# Altium footprint library ARDUINO_NANO.PcbLib: 2 footprints
Each footprint in its own frame and in the unit in brackets; x right, y up, seen from the top. Pads: shape width x height; smd on the part's side, far side on the other; paste and mask are expansions set on the pad; w line width, h text height; cw(c..) or ccw(c..) is an arc to the next point about the centre after c.
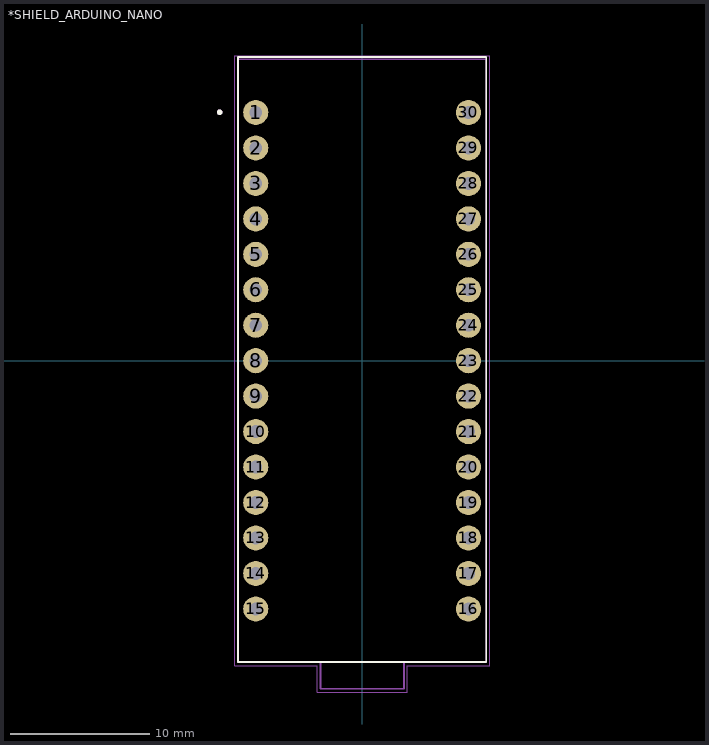
[diagram p0: the footprints below, top view; thin cyan lines are the x and y axes]

## *SHIELD_ARDUINO_NANO [mm]
pads (30):
  round 1.8 hole 0.918: 1(-7.62,17.78) 2(-7.62,15.24) 3(-7.62,12.7) 4(-7.62,10.16) 5(-7.62,7.62) 6(-7.62,5.08) 7(-7.62,2.54) 8(-7.62,0) 9(-7.62,-2.54) 10(-7.62,-5.08) 11(-7.62,-7.62) 12(-7.62,-10.16) 13(-7.62,-12.7) 14(-7.62,-15.24) 15(-7.62,-17.78) 16(7.62,-17.78) 17(7.62,-15.24) 18(7.62,-12.7) 19(7.62,-10.16) 20(7.62,-7.62) 21(7.62,-5.08) 22(7.62,-2.54) 23(7.62,0) 24(7.62,2.54) 25(7.62,5.08) 26(7.62,7.62) 27(7.62,10.16) 28(7.62,12.7) 29(7.62,15.24) 30(7.62,17.78)
Top Overlay:
  circle w0.2: c-10.2,17.8 r0.1
  lines w0.127: -8.89,-21.59 -8.89,21.75 8.89,21.75 8.89,-21.59 -8.89,-21.59
Mechanical 13:
  circle w0.2: c-10.2,17.8 r0.1
  circle w0.2: c-10.2,17.8 r0.1
  lines w0.127: -8.89,-21.59 -8.89,21.59 ; -8.89,-21.59 -2.97,-21.59 ; -8.89,-21.59 -8.89,21.59 ; -8.89,-21.59 -2.97,-21.59 ; -8.89,21.59 8.89,21.59 ; -8.89,21.59 8.89,21.59 ; -2.97,-23.495 3,-23.495 ; -2.97,-23.495 -2.97,-21.59 ; -2.97,-23.495 3,-23.495 ; -2.97,-23.495 -2.97,-21.59 ; -2.97,-21.59 3,-21.59 ; -2.97,-21.59 3,-21.59 ; 3,-23.495 3,-21.59 ; 3,-23.495 3,-21.59 ; 3,-21.59 8.89,-21.59 ; 3,-21.59 8.89,-21.59 ; 8.89,-21.59 8.89,21.59 ; 8.89,-21.59 8.89,21.59
Mechanical 16:
  lines w0.05: -9.14,-21.84 -3.22,-21.84 -3.22,-23.745 3.25,-23.745 3.25,-21.84 9.14,-21.84 9.14,21.84 -9.14,21.84 -9.14,-21.84
3D body: height 0.25, standoff 0, extent 0,-0.127 0,-0.127
3D body: height 0.25, standoff 0, extent -32.258,0.127 -32.258,0.127
3D body "arduino nano.STEP": height 12.64, standoff -5.96, extent -9,-23.5 9,21.5

## PCBComponent_1 [mm]